# Altium footprint library PCB - CAPACITOR - ALUMINIUM - CAP ALSMD ELEC 19.1MM H22MM.pcblib: 1 footprints
Each footprint in its own frame and in the unit in brackets; x right, y up, seen from the top. Pads: shape width x height; smd on the part's side, far side on the other; paste and mask are expansions set on the pad; w line width, h text height; cw(c..) or ccw(c..) is an arc to the next point about the centre after c.
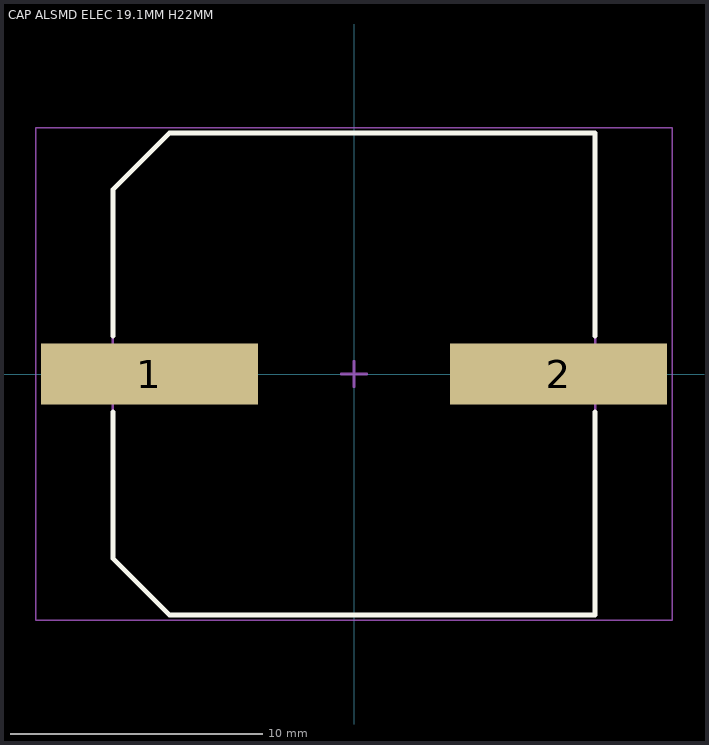
[diagram p0: the footprint, top view; thin cyan lines are the x and y axes]

## CAP ALSMD ELEC 19.1MM H22MM [mm] "Aluminum SMD Electrolytic Capacitor, 19.10mm Land Size, 18.00mm Diameter, 22.00mm Height, 20.10mm Maximum Leads Span"
height 1.2
pads (2):
  rect 8.6x2.4 smd: 1(-8.1,0) 2(8.1,0)
Top Overlay:
  lines w0.2: -9.55,-1.5 -9.55,-7.3 -7.3,-9.55 9.55,-9.55 9.55,-1.5 ; -9.55,1.5 -9.55,7.3 -7.3,9.55 9.55,9.55 9.55,1.5
Mechanical 13:
  lines w0.1: -9.55,-7.3 -9.55,7.3 -7.3,9.55 9.55,9.55 9.55,-9.55 -7.3,-9.55 -9.55,-7.3
Mechanical 15:
  lines w0.05: -12.6,-9.75 -12.6,9.75 12.6,9.75 12.6,-9.75 -12.6,-9.75
  lines w0.1: -0.5,0 0.5,0 ; 0,-0.5 0,0.5
3D body: height 22, standoff 0, extent -10.05,-9.55 10.05,9.55